# EAGLE library part KC21 (library bluetooth-kcwirefree)
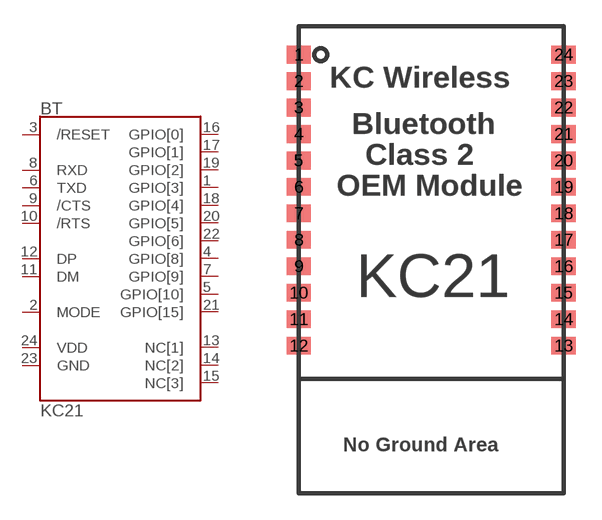
[diagram p0: symbol with the pads of KC21; footprint KC21]

Designator prefix BT

## KC21  [KC21]
1  GPIO[3]
2  MODE  in
3  /RESET  in
4  GPIO[8]
5  GPIO[10]
6  TXD  out
7  GPIO[9]
8  RXD  in
9  /CTS  in
10  /RTS  out
11  DM
12  DP
13  NC[1]  nc
14  NC[2]  nc
15  NC[3]  nc
16  GPIO[0]
17  GPIO[1]
18  GPIO[4]
19  GPIO[2]
20  GPIO[5]
21  GPIO[15]
22  GPIO[6]
23  GND  pwr
24  VDD  pwr

## Footprint KC21 (pad centres in mm)
smd 1.397 x 1.016: 1 0,0; 2 0,-1.524; 3 0,-3.048; 4 0,-4.572; 5 0,-6.096; 6 0,-7.62; 7 0,-9.144; 8 0,-10.668; 9 0,-12.192; 10 0,-13.716; 11 0,-15.24; 12 0,-16.764; 13 15.24,-16.764; 14 15.24,-15.24; 15 15.24,-13.716; 16 15.24,-12.192; 17 15.24,-10.668; 18 15.24,-9.144; 19 15.24,-7.62; 20 15.24,-6.096; 21 15.24,-4.572; 22 15.24,-3.048; 23 15.24,-1.524; 24 15.24,0